# Altium schematic symbol library schematiclibrary.SchLib: 14 symbols
Pins are listed as number, name and electrical type; pins without a type are passive.

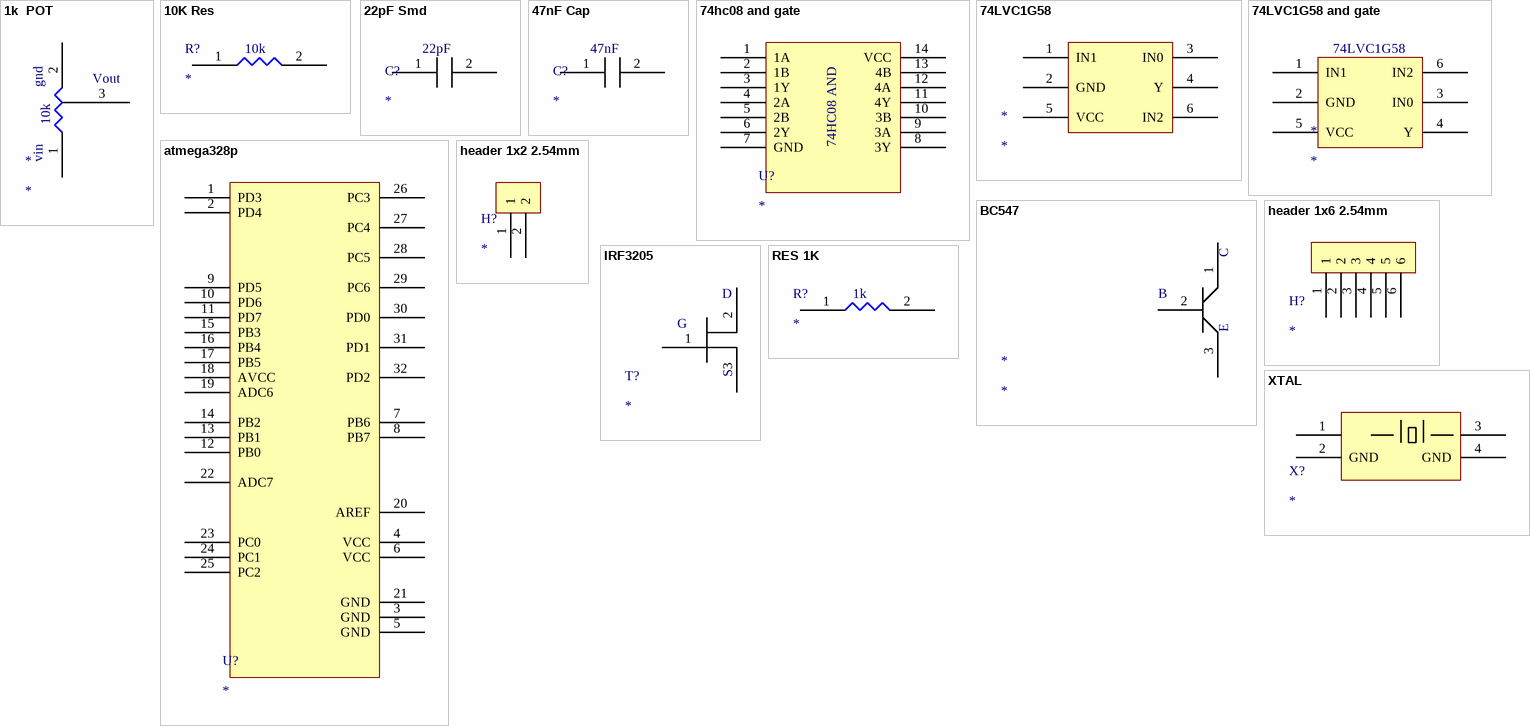
[diagram p0: symbols 1k  POT to XTAL]

## 1k  POT
designator *
footprint smd trimpot
pins: 1, 2 GND, 3
text: gnd; Vout; 10k; vin

## 10K Res
designator R?
10K SMD Res
footprint smd res
pins: 1, 2
text: 10k

## 22pF Smd
designator C?
footprint smd cap
pins: 1, 2
text: 22pF

## 47nF Cap
designator C?
47uF
footprint smd cap
pins: 1, 2
text: 47nF

## 74hc08 and gate
designator U?
footprint SOIC127P1030X265-14N (SOIC, 14-Leads, Body 10,30x7,50mm, Pitch 1,27mm, IPC Medium Density)
pins: 1 1A, 2 1B, 3 1Y, 4 2A, 5 2B, 6 2Y, 7 GND, 8 3Y, 9 3A, 10 3B, 11 4Y, 12 4A, 13 4B, 14 VCC
text: 74HC08 AND

## 74LVC1G58
designator *
AND GATE
footprint 74LVC1G58
pins: 1 IN1, 2 GND, 3 IN0, 4 Y, 5 VCC, 6 IN2

## 74LVC1G58 and gate
designator *
pins: 1 IN1, 2 GND, 3 IN0, 4 Y, 5 VCC, 6 IN2
text: 74LVC1G58

## atmega328p
designator U?
footprint atmega238p (CQFP, 32-Leads, Body 11,15x11,15mm, Pitch 0,80mm, IPC Medium Density)
pins: 1 PD3, 2 PD4, 3 GND, 4 VCC, 5 GND, 6 VCC, 7 PB6, 8 PB7, 9 PD5, 10 PD6, 11 PD7, 12 PB0, 13 PB1, 14 PB2, 15 PB3, 16 PB4, 17 PB5, 18 AVCC, 19 ADC6, 20 AREF, 21 GND, 22 ADC7, 23 PC0, 24 PC1, 25 PC2, 26 PC3, 27 PC4, 28 PC5, 29 PC6, 30 PD0, 31 PD1, 32 PD2

## BC547
designator *
footprint TO-92
pins: 1 6, 2 4, 3 5
text: C; B; E

## header 1x2 2.54mm
designator H?
footprint HEADER 1X2 2.54mm
pins: 1, 2

## header 1x6 2.54mm
designator H?
footprint Header 1x6 2.54mm
pins: 1, 2, 3, 4, 5, 6

## IRF3205
designator T?
footprint smd mosfet (D2-PAK, 3-Pads, Body 7,91x8,70mm (max), IPC Medium Density)
pins: 1, 2, 3
text: D; G; S

## RES 1K
designator R?
1K Res
footprint smd res
pins: 1, 2
text: 1k

## XTAL
designator X?
16MHz Xtal
footprint xtal
pins: 1 2, 2 GND, 3 4, 4 GND